# Altium schematic symbol library wsn_common.SchLib: 4 symbols
Pins are listed as number, name and electrical type; pins without a type are passive.

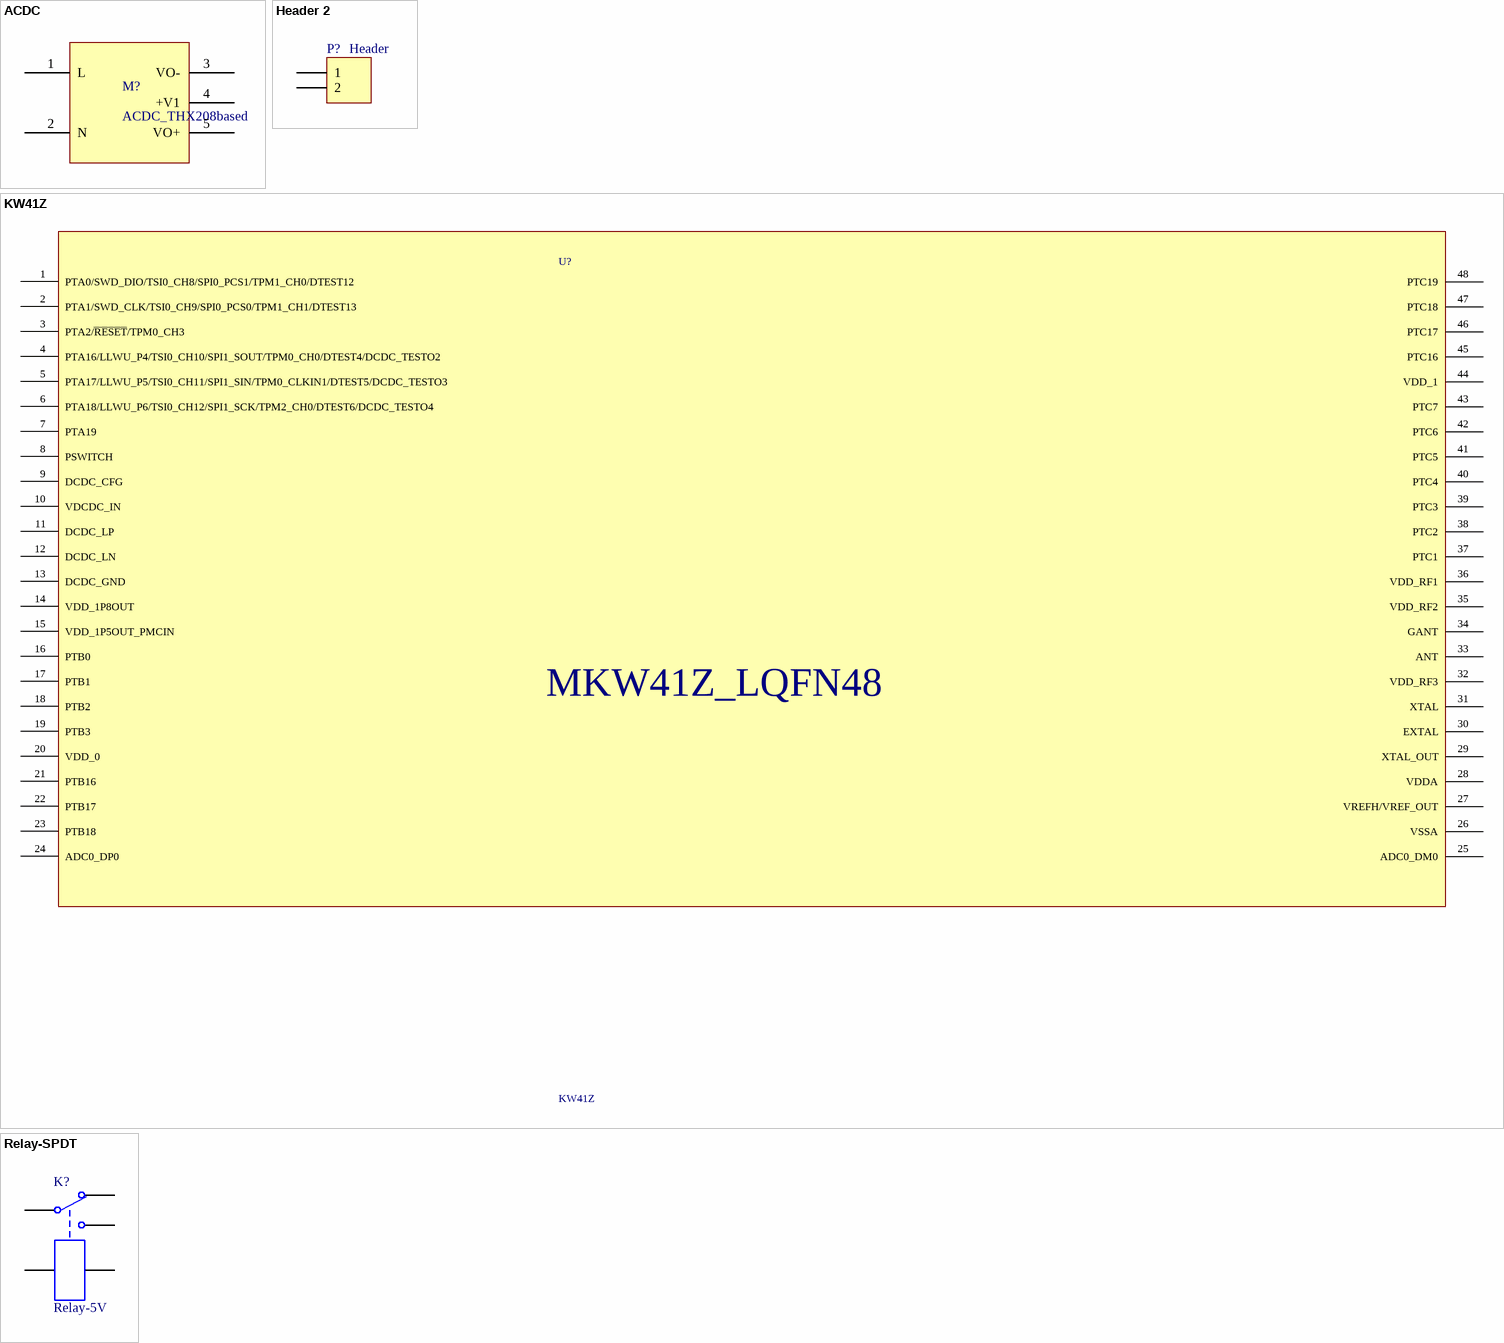
[diagram p0: symbols ACDC to Relay-SPDT]

## ACDC
designator M?, comment ACDC_THX208based
THX208Based
footprint ACDC_THX208
pins: 1 L, 2 N, 3 VO-, 4 +V1, 5 VO+

## Header 2
designator P?, comment Header
Header, 2-Pin; LatestRevisionDate: 17-Jul-2002; LatestRevisionNote: Re-released for DXP Platform.; Publisher: Altium Limited
footprint HDR1X2 (Connector; Header; 2 Position)
signal-integrity model Connector
pins: 1, 2

## KW41Z
designator U?
NXP
footprint LQFP64
pins: 1 PTA0/SWD_DIO/TSI0_CH8/SPI0_PCS1/TPM1_CH0/DTEST12, 2 PTA1/SWD_CLK/TSI0_CH9/SPI0_PCS0/TPM1_CH1/DTEST13, 3 PTA2/~{RESET}/TPM0_CH3, 4 PTA16/LLWU_P4/TSI0_CH10/SPI1_SOUT/TPM0_CH0/DTEST4/DCDC_TESTO2, 5 PTA17/LLWU_P5/TSI0_CH11/SPI1_SIN/TPM0_CLKIN1/DTEST5/DCDC_TESTO3, 6 PTA18/LLWU_P6/TSI0_CH12/SPI1_SCK/TPM2_CH0/DTEST6/DCDC_TESTO4, 7 PTA19, 8 PSWITCH, 9 DCDC_CFG, 10 VDCDC_IN, 11 DCDC_LP, 12 DCDC_LN, 13 DCDC_GND, 14 VDD_1P8OUT, 15 VDD_1P5OUT_PMCIN, 16 PTB0, 17 PTB1, 18 PTB2, 19 PTB3, 20 VDD_0, 21 PTB16, 22 PTB17, 23 PTB18, 24 ADC0_DP0, 25 ADC0_DM0, 26 VSSA, 27 VREFH/VREF_OUT, 28 VDDA, 29 XTAL_OUT, 30 EXTAL, 31 XTAL, 32 VDD_RF3, 33 ANT, 34 GANT, 35 VDD_RF2, 36 VDD_RF1, 37 PTC1, 38 PTC2, 39 PTC3, 40 PTC4, 41 PTC5, 42 PTC6, 43 PTC7, 44 VDD_1, 45 PTC16, 46 PTC17, 47 PTC18, 48 PTC19
text: MKW41Z_LQFN48

## Relay-SPDT
designator K?, comment Relay-5V
Single-Pole Dual-Throw Relay; Published: 24-Mar-1999; LatestRevisionDate: 17-Jul-2002; LatestRevisionNote: Re-released for DXP Platform.; PackageReference: MODULE5B; Publisher: Altium Limited
footprint MODULE5B (DIP; 5 Round Pins; Row Space 15.24 mm; Pitch 2.54 mm)
simulation model SPDTRELAY (Spice Subcircuit)
footprint HJR-4102
pins: 1, 2, 3, 4, 5